# Altium schematic symbol library B38G3RGB-10D0003H2U1930.SchLib: 2 symbols
Pins are listed as number, name and electrical type; pins without a type are passive.

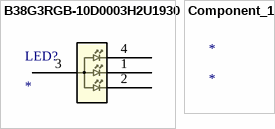
[diagram p0: symbols B38G3RGB-10D0003H2U1930 to Component_1]

## B38G3RGB-10D0003H2U1930
designator LED?
No Description Available; Mfr_Name: Harvatek; RefDes: RefDes; Type: Type
footprint B38G3RGB-10D0003H2U1930_HVK
pins: 1, 2, 3, 4

## Component_1
designator *